# Altium integrated library Pulse Electronics.IntLib: 1 symbol
Pins are listed as number, name and electrical type; pins without a type are passive.

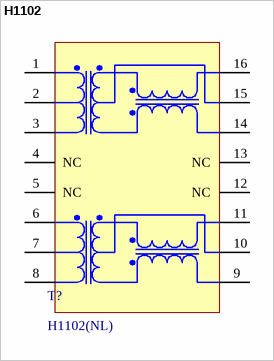
[diagram p0: symbol H1102]

## H1102
designator T?, comment H1102(NL)
10/100 Base-T Single Port
footprint H1102
pins: 1, 2, 3, 4 NC, 5 NC, 6, 7, 8, 9, 10, 11, 12 NC, 13 NC, 14, 15, 16